# EAGLE library part MC68681P (library EW_IC_Processors)
68xxx PROCESSOR
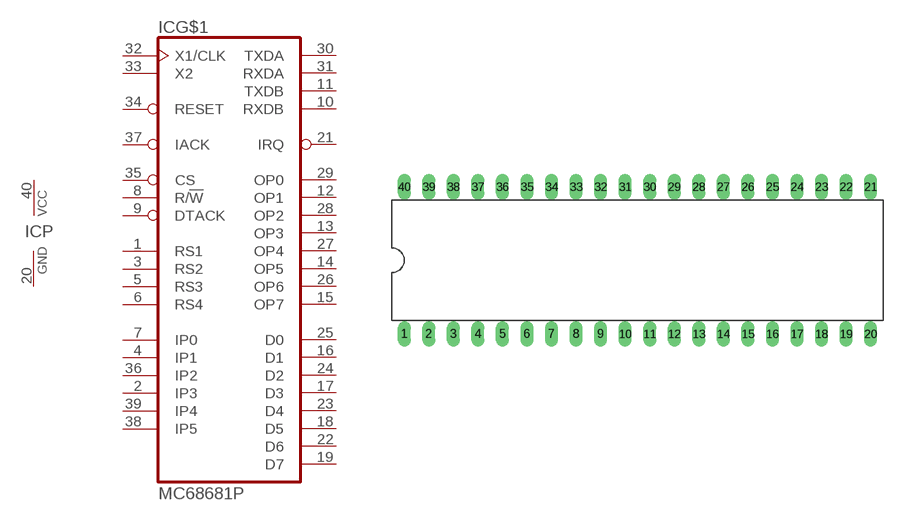
[diagram p61: symbol with the pads of DIL40; footprint DIL40]

Designator prefix IC; gates G$1=68681 P=PWRN-4

## MC68681P (OC_FARNELL: unknown; OC_NEWARK: unknown)  [DIL40]
1  G$1:RS1  in
2  G$1:IP3  in
3  G$1:RS2  in
4  G$1:IP1  in
5  G$1:RS3  in
6  G$1:RS4  in
7  G$1:IP0  in
8  G$1:R/!W  in
9  G$1:DTACK  out
10  G$1:RXDB  out
11  G$1:TXDB
12  G$1:OP1  out
13  G$1:OP3  out
14  G$1:OP5  out
15  G$1:OP7  out
16  G$1:D1
17  G$1:D3
18  G$1:D5
19  G$1:D7
20  P:GND  pwr
21  G$1:IRQ  out
22  G$1:D6
23  G$1:D4
24  G$1:D2
25  G$1:D0
26  G$1:OP6  out
27  G$1:OP4  out
28  G$1:OP2  out
29  G$1:OP0  out
30  G$1:TXDA  out
31  G$1:RXDA  in
32  G$1:X1/CLK  in
33  G$1:X2  out
34  G$1:RESET  in
35  G$1:CS  in
36  G$1:IP2  in
37  G$1:IACK  in
38  G$1:IP5  in
39  G$1:IP4  in
40  P:VCC  pwr

## Footprint DIL40 (pad centres in mm)
Dual In Line package type P
drill 0.813 long: 1 -24.13,-7.62; 2 -21.59,-7.62; 3 -19.05,-7.62; 4 -16.51,-7.62; 5 -13.97,-7.62; 6 -11.43,-7.62; 7 -8.89,-7.62; 8 -6.35,-7.62; 9 -3.81,-7.62; 10 -1.27,-7.62; 11 1.27,-7.62; 12 3.81,-7.62; 13 6.35,-7.62; 14 8.89,-7.62; 15 11.43,-7.62; 16 13.97,-7.62; 17 16.51,-7.62; 18 19.05,-7.62; 19 21.59,-7.62; 20 24.13,-7.62; 21 24.13,7.62; 22 21.59,7.62; 23 19.05,7.62; 24 16.51,7.62; 25 13.97,7.62; 26 11.43,7.62; 27 8.89,7.62; 28 6.35,7.62; 29 3.81,7.62; 30 1.27,7.62; 31 -1.27,7.62; 32 -3.81,7.62; 33 -6.35,7.62; 34 -8.89,7.62; 35 -11.43,7.62; 36 -13.97,7.62; 37 -16.51,7.62; 38 -19.05,7.62; 39 -21.59,7.62; 40 -24.13,7.62